# Altium footprint library HEXCAL_PCB_LIB.PcbLib: 209 footprints (part 10 of 14)
Each footprint in its own frame and in the unit in brackets; x right, y up, seen from the top. Pads: shape width x height; smd on the part's side, far side on the other; paste and mask are expansions set on the pad; w line width, h text height; cw(c..) or ccw(c..) is an arc to the next point about the centre after c.
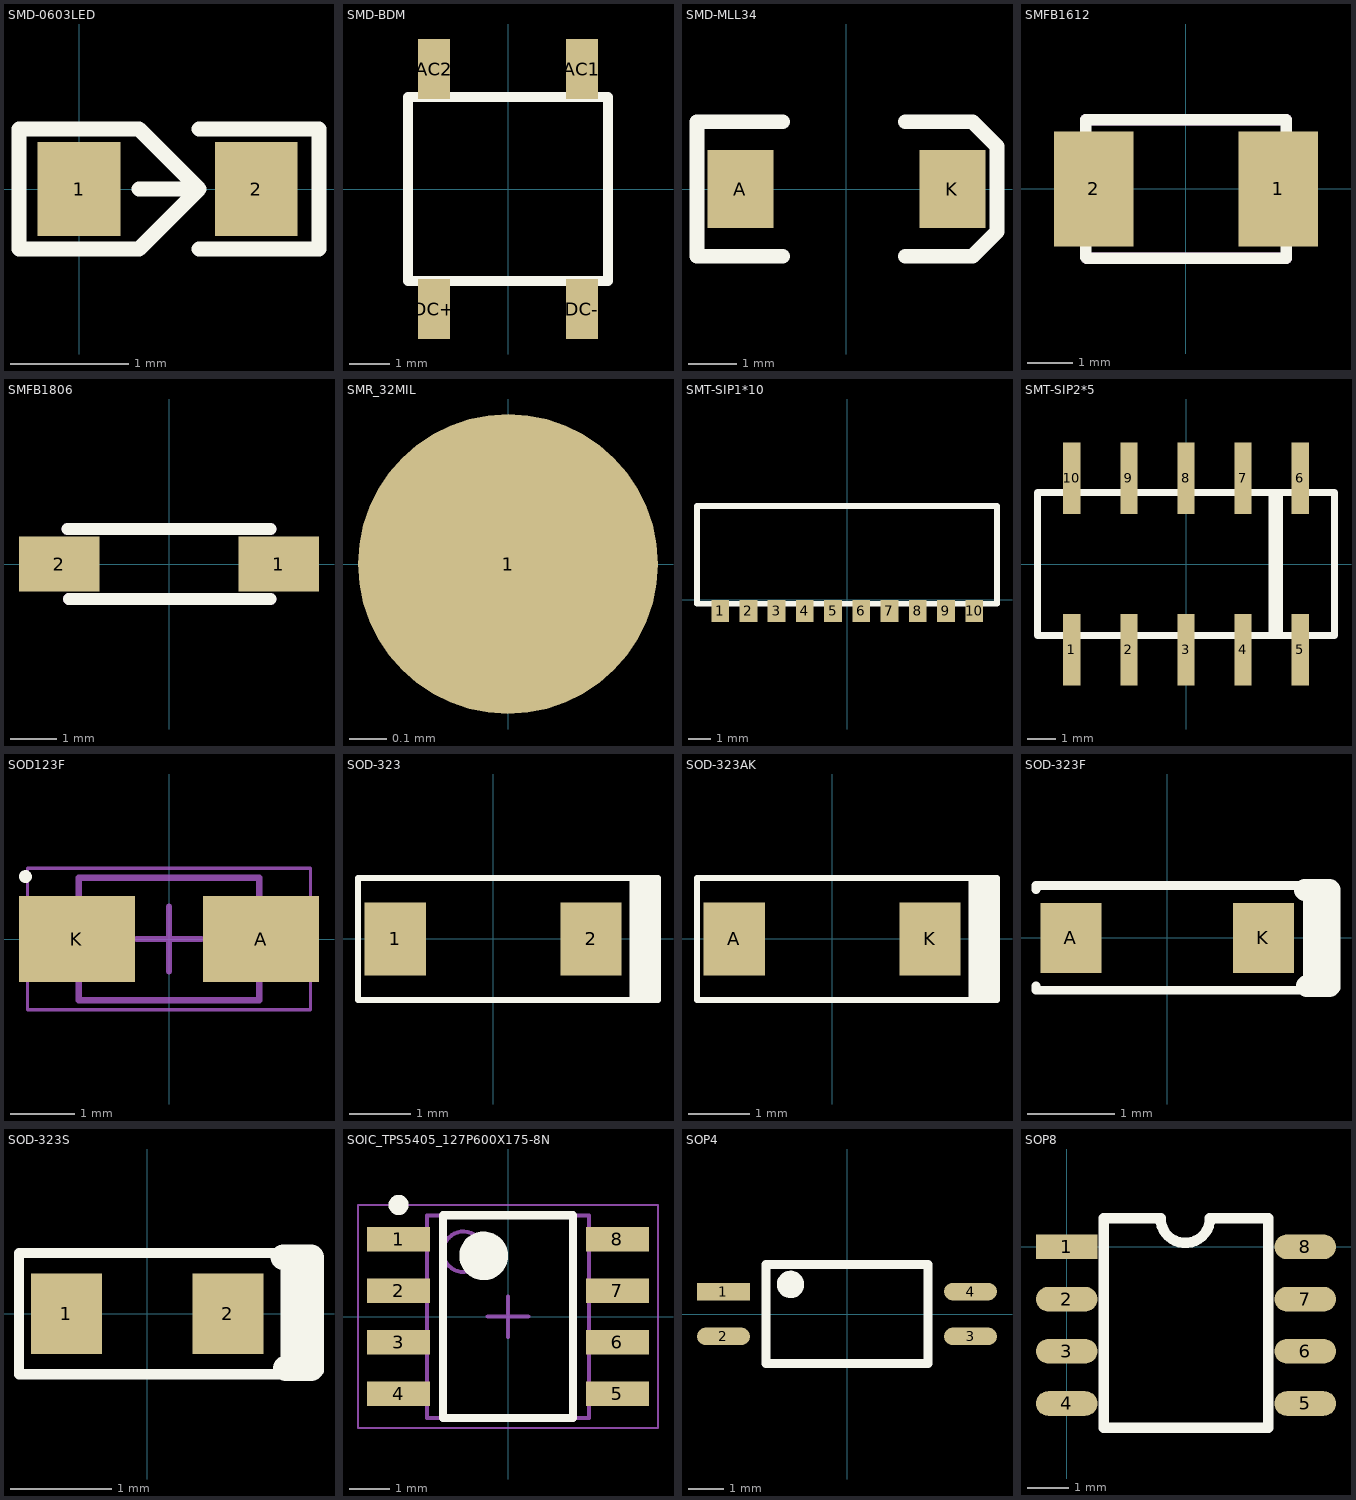
[diagram p9: the footprints below, top view; thin cyan lines are the x and y axes]

## SMD-0603LED [mm]
pads (2):
  rect 0.7x0.8 smd: 1(0,0) 2(1.5,0)
Top Overlay:
  lines w0.127: 0.508,0 1.016,0 ; 1.016,-0.508 2.032,-0.508 2.032,0.508 1.016,0.508 ; 0.508,0.508 -0.508,0.508 -0.508,-0.508 0.508,-0.508 1.016,0 ; 0.508,0.508 1.016,0 ; 0.508,0.508 1.016,0

## SMD-BDM [mm]
pads (4):
  rect 0.8x1.5 smd: AC1(1.85,3) AC2(-1.85,3) DC+(-1.85,-3) DC-(1.85,-3)
Top Overlay:
  lines w0.254: -2.5,-2.3 2.5,-2.3 2.5,2.3 -2.5,2.3 -2.5,-2.3

## SMD-MLL34 [mil]
pads (2):
  rect 54x64 smd: A(-86.61,0) K(86.61,0)
Top Overlay:
  lines w12: -52,-55 -122,-55 -122,55 -52,55 ; 48,-55 103,-55 123,-35 123,35 103,55 48,55

## SMFB1612 [mil]
pads (2):
  rect 69x100 smd: 1(80,0) 2(-80,0)
Top Overlay:
  lines w10: -87,-59 -87,60 87,60 87,-60 -86,-60
Mechanical 6:
  lines w10: -87,60 87,60 ; -86,-60 87,-60

## SMFB1806 [mil]
pads (2):
  rect 69x47 smd: 1(94,0) 2(-94,0)
Top Overlay:
  lines w10: -87,30 87,30 ; -86,-30 87,-30
Mechanical 6:
  lines w10: -87,30 87,30 ; -86,-30 87,-30

## SMR_32MIL [mil]
pads (1):
  round 32 smd: 1(0,0)

## SMT-SIP1*10 [mm]
pads (10):
  rect 0.8x1 smd: 1(-5.715,-0.5) 2(-4.445,-0.5) 3(-3.175,-0.5) 4(-1.905,-0.5) 5(-0.635,-0.5) 6(0.635,-0.5) 7(1.905,-0.5) 8(3.175,-0.5) 9(4.445,-0.5) 10(5.715,-0.5)
Top Overlay:
  lines w0.254: -6.756,-0.178 6.744,-0.178 6.744,4.222 -6.756,4.222 -6.756,-0.178

## SMT-SIP2*5 [mm]
pads (10):
  rect 0.6x2.5 smd: 1(-4,-3) 2(-2,-3) 3(0,-3) 4(2,-3) 5(4,-3) 6(4,3) 7(2,3) 8(0,3) 9(-2,3) 10(-4,3)
Top Overlay:
  lines w0.254: 3.023,2.5 3.023,-2.464 3.048,-2.489 ; 3.277,-2.5 3.277,2.5 ; -5.2,-2.5 2.575,-2.5 5.2,-2.5 5.2,2.5 -5.2,2.5 -5.2,-2.5
3D body: height 5, standoff 0.1, extent -5.2,-2.5 5.2,2.5

## SOD123F [mm]
height 1
pads (2):
  rect 1.8x1.34 smd: A(1.43,0) K(-1.43,0)
Top Overlay:
  circle w0.1: c-2.23,0.97 r0.05
Mechanical 13:
  lines w0.1: -1.4,-0.95 1.4,-0.95 1.4,0.95 -1.4,0.95 -1.4,-0.95
Mechanical 15:
  lines w0.05: -2.2,-1.1 2.2,-1.1 2.2,1.1 -2.2,1.1 -2.2,-1.1
  lines w0.1: -0.5,0 0.5,0 ; 0,-0.5 0,0.5
3D body: height 1, standoff 0, extent -1.75,-0.95 1.75,0.95

## SOD-323 [mm]
pads (2):
  rect 1x1.2 smd: 1(-1.6,0) 2(1.6,0)
Top Overlay:
  lines w0.1: -2.21,-1 -2.21,1 ; -2.21,-1 2.277,-1 ; -2.21,-1 2.277,-1 ; -2.21,-1 -2.21,1 ; -2.21,1 2.277,1 ; -2.21,1 2.277,1 ; 2.277,-1 2.489,-1 ; 2.277,-1 2.277,1 ; 2.277,-1 2.277,1 ; 2.277,-1 2.489,-1 ; 2.277,1 2.489,1 ; 2.277,1 2.489,1 ; 2.481,-1 2.481,1 ; 2.481,-1 2.694,-1 ; 2.481,-1 2.694,-1 ; 2.481,-1 2.481,1 ; 2.481,1 2.694,1 ; 2.481,1 2.694,1 ; 2.489,-1 2.489,1 ; 2.489,-1 2.489,1 ; 2.694,-1 2.694,1 ; 2.694,-1 2.694,1 ; 2.369,-0.997 2.37,0.97 2.369,-0.997 ; 2.407,-0.997 2.408,0.974 2.407,-0.997 ; 2.574,-0.997 2.574,0.97 2.574,-0.997 ; 2.612,-0.997 2.612,0.974 2.612,-0.997

## SOD-323AK [mm]
pads (2):
  rect 1x1.2 smd: A(-1.6,0) K(1.6,0)
Top Overlay:
  lines w0.1: -2.21,-1 2.277,-1 ; -2.21,-1 -2.21,1 ; -2.21,-1 2.277,-1 ; -2.21,-1 -2.21,1 ; -2.21,1 2.277,1 ; -2.21,1 2.277,1 ; 2.277,-1 2.277,1 ; 2.277,-1 2.489,-1 ; 2.277,-1 2.277,1 ; 2.277,-1 2.489,-1 ; 2.277,1 2.489,1 ; 2.277,1 2.489,1 ; 2.481,-1 2.694,-1 ; 2.481,-1 2.481,1 ; 2.481,-1 2.694,-1 ; 2.481,-1 2.481,1 ; 2.481,1 2.694,1 ; 2.481,1 2.694,1 ; 2.489,-1 2.489,1 ; 2.489,-1 2.489,1 ; 2.694,-1 2.694,1 ; 2.694,-1 2.694,1 ; 2.369,-0.997 2.37,0.97 2.369,-0.997 ; 2.407,-0.997 2.408,0.974 2.407,-0.997 ; 2.574,-0.997 2.574,0.97 2.574,-0.997 ; 2.612,-0.997 2.612,0.974 2.612,-0.997

## SOD-323F [mm]
pads (2):
  rect 0.7x0.8 smd: A(-1.1,0) K(1.1,0)
Top Overlay:
  lines w0.1: -1.499,-0.549 -1.499,-0.6 1.524,-0.6 ; -1.499,0.549 -1.499,0.6 1.575,0.6 1.575,0.549 ; 1.6,-0.625 1.6,0.483 ; 1.626,-0.625 1.626,0.483 ; 1.88,-0.575 1.88,0.533 ; 1.93,-0.575 1.93,0.533
  lines w0.254: 1.575,0.549 1.854,0.549 ; 1.6,-0.549 1.854,-0.549 ; 1.753,-0.549 1.753,0.533

## SOD-323S [mm]
pads (2):
  rect 0.7x0.8 smd: 1(-0.8,0) 2(0.8,0)
Top Overlay:
  lines w0.1: 1.346,0.559 1.346,0.61 ; 1.372,-0.616 1.372,0.492 ; 1.397,-0.616 1.397,0.492 ; 1.524,-0.6 -1.27,-0.6 -1.27,0.6 1.575,0.6 ; 1.651,-0.565 1.651,0.543 ; 1.702,-0.565 1.702,0.543
  lines w0.254: 1.346,0.559 1.626,0.559 ; 1.372,-0.54 1.626,-0.54 ; 1.524,-0.54 1.524,0.543

## SOIC_TPS5405_127P600X175-8N [mm] "SOIC, 8-Leads, Body 4.90x3.90mm, Pitch 1.27mm, IPC Medium Density"
height 1.75
pads (8):
  rect 1.55x0.6 smd: 1(-2.7,1.905) 2(-2.7,0.635) 3(-2.7,-0.635) 4(-2.7,-1.905) 5(2.7,-1.905) 6(2.7,-0.635) 7(2.7,0.635) 8(2.7,1.905)
Top Overlay:
  circle w0.6: c-0.6,1.5 r0.3
  circle w0.25: c-2.7,2.755 r0.125
  lines w0.2: -1.6,-2.5 1.6,-2.5 1.6,2.5 -1.6,2.5 -1.6,-2.5
Mechanical 13:
  circle w0.1: c-1.1,1.6 r0.5
  lines w0.1: -2,-2.5 2,-2.5 2,2.5 -2,2.5 -2,-2.5
Mechanical 15:
  lines w0.05: -3.7,-2.75 3.7,-2.75 3.7,2.75 -3.7,2.75 -3.7,-2.75
  lines w0.1: -0.5,0 0.5,0 ; 0,-0.5 0,0.5
3D body: height 1.75, standoff 0, extent -3,-2.5 3,2.5

## SOP4 [mm]
pads (4):
  rect 1.5x0.5 smd: 1(-3.5,0.635)
  oval 1.5x0.5 smd: 2(-3.5,-0.635) 3(3.5,-0.635) 4(3.5,0.635)
Top Overlay:
  circle w0.254: c-1.6,0.838 r0.262
  circle w0.254: c-1.6,0.838 r0.051
  circle w0.254: c-1.6,0.838 r0.161
  circle w0.254: c-1.6,0.838 r0.161
  lines w0.254: -2.3,-1.4 2.3,-1.4 2.3,1.4 -2.3,1.4 -2.3,-1.4

## SOP8 [mm]
pads (8):
  rect 1.5x0.6 smd: 1(0,0)
  oval 1.5x0.6 smd: 2(0,-1.27) 3(0,-2.54) 4(0,-3.81) 5(5.8,-3.81) 6(5.8,-2.54) 7(5.8,-1.27) 8(5.8,0)
Top Overlay:
  lines w0.254: 0.9,-4.405 4.9,-4.405 4.9,0.695 3.482,0.695 cw(c2.882,0.695) 2.282,0.695 0.9,0.695 0.9,-4.405